# Altium schematic symbol library Components - 12.03.22 - 19.12.SchLib: 1 symbol
Pins are listed as number, name and electrical type; pins without a type are passive.

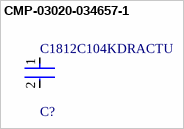
[diagram p0: symbol CMP-03020-034657-1]

## CMP-03020-034657-1
designator C?, comment C1812C104KDRACTU
CAP CER 0.1UF 1KV X7R 1812; Dielectric Material: Ceramic; Capacitance: 100nF; Tolerance: 10%; Case Code (Imperial): 1812; RoHS Compliant: Yes; Min Operating Temperature: -55°C; Case Code (Metric): 4532; Depth: 3.2mm; Dielectric: X7R; Mount: Surface Mount; Max Operating Temperature: 125°C; Packaging: Tape and Reel; Thickness: 0.073inch; Termination: SMD/SMT; Width: 0.126inch; Voltage Rating: 1kV; Package Quantity: 1; Series: C; Case/Package: 1812; Length: 0.177inch; REACH SVHC: No SVHC; Voltage Rating (DC): 1kV; Contact Plating: Tin
footprint FP-C1812C104KDRACTU-IPC_B
footprint FP-C1812C104KDRACTU-IPC_C
footprint FP-C1812C104KDRACTU-IPC_A
footprint FP-C1812C104KDRACTU-MFG
pins: 1, 2